# Altium footprint library fsm4jsma.PcbLib: 1 footprints
Each footprint in its own frame and in the unit in brackets; x right, y up, seen from the top. Pads: shape width x height; smd on the part's side, far side on the other; paste and mask are expansions set on the pad; w line width, h text height; cw(c..) or ccw(c..) is an arc to the next point about the centre after c.
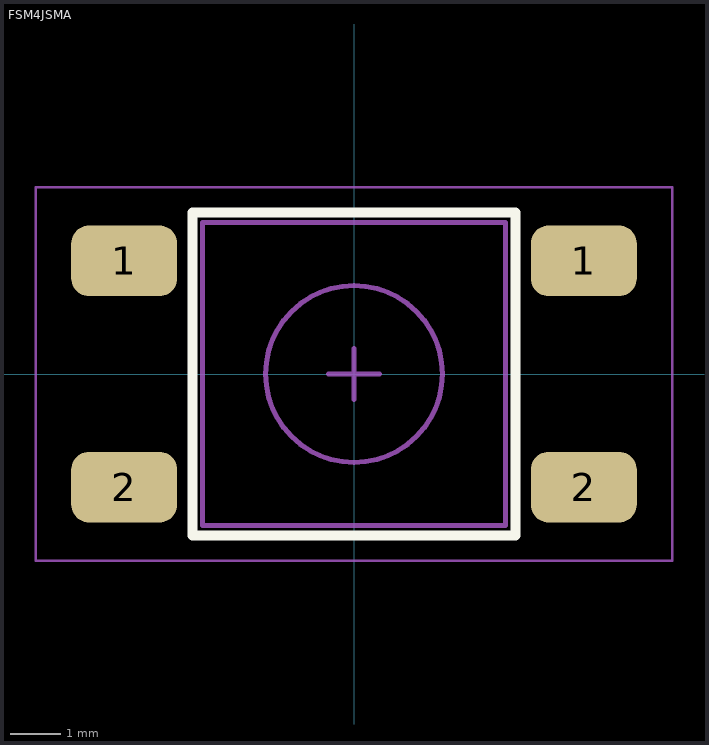
[diagram p0: the footprint, top view; thin cyan lines are the x and y axes]

## FSM4JSMA [mm]
height 5.1
pads (4):
  rrect50% 2.1x1.4 smd: 1(-4.55,2.24) 1(4.55,2.24) 2(-4.55,-2.24) 2(4.55,-2.24)
Top Overlay:
  lines w0.2: -3.2,-3.2 -3.2,3.2 3.2,3.2 3.2,-3.2 -3.2,-3.2
Mechanical 7 (Mech7):
  text ".Comment" at 0.5,4 h1.2
Mechanical 9:
  text ".Designator" at -1,4 h1.2
Mechanical 11:
  circle w0.1: c0,0 r1.75
  lines w0.05: -6.3,-3.7 -6.3,3.7 6.3,3.7 6.3,-3.7 -6.3,-3.7
  lines w0.1: -3,-3 3,-3 3,3 -3,3 -3,-3
Mechanical 15:
  lines w0.1: -0.5,0 0.5,0 ; 0,-0.5 0,0.5
3D body "FSM4JSMA.STEP": height 5.13, standoff 0, extent -5,-3 5,3